# Altium schematic symbol library reg_switching_misc.SchLib: 2 symbols
Pins are listed as number, name and electrical type; pins without a type are passive.

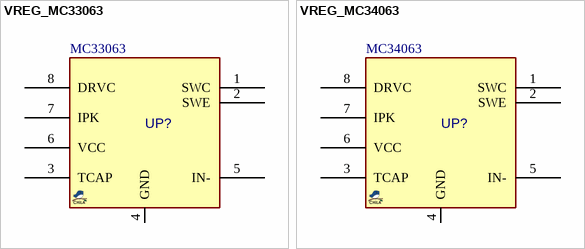
[diagram p0: symbols VREG_MC33063 to VREG_MC34063]

## VREG_MC33063
designator UP?, comment MC33063
REG, Switching, Buck/Boost/Inv, 1.5A, ADJ, 100KHz,3~40VIN, SO-8; MANF: TI, ON; MANF_P#: MC33063AD; ASSEMBLY: ASSEMBLY; PARAM: 1.5A, ADJ; PRICE: 1000t@PAYA; DESC: REG, Switching, Buck/Boost/Inv, 1.5A, ADJ, 100KHz,3~40VIN, SO-8; PARAM2: 100KHz,3~40VIN; VALUE: MC33063
footprint SO_8
pins: 1 SWC, 2 SWE, 3 TCAP, 4 GND (power), 5 IN-, 6 VCC (power), 7 IPK, 8 DRVC (oc)

## VREG_MC34063
designator UP?, comment MC34063
REG, Switching, Buck/Boost/Inv, 1.5A, ADJ, 100KHz,3~40VIN, SO-8; MANF: TI, ON, HTC; MANF_P#: MC34063AD, HTC34063; ASSEMBLY: ASSEMBLY; PARAM: 1.5A, ADJ; PRICE: 600t@PAYA; DESC: REG, Switching, Buck/Boost/Inv, 1.5A, ADJ, 100KHz,3~40VIN, SO-8; PARAM2: 100KHz,3~40VIN; VALUE: MC34063
footprint SO_8
pins: 1 SWC, 2 SWE, 3 TCAP, 4 GND (power), 5 IN-, 6 VCC (power), 7 IPK, 8 DRVC (oc)